# EAGLE library part SM07B-SRSS-TB (library HKCV4)
SM07B-SRSS-TB 1.0 mm pitch/Disconnectable Crimp style connectors
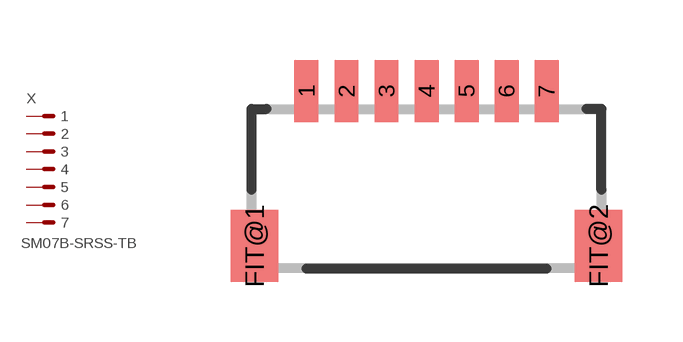
[diagram p4: symbol with the pads of SM07B-SRSS-TB; footprint SM07B-SRSS-TB]

Designator prefix X

## SM07B-SRSS-TB (VALUE: SM07B-SRSS-TB)  [SM07B-SRSS-TB]
1  1  pas
2  2  pas
3  3  pas
4  4  pas
5  5  pas
6  6  pas
7  7  pas

## Footprint SM07B-SRSS-TB (pad centres in mm)
Shrouded Header, side entry type
smd 0.6 x 1.55: 1 -3,2.975; 2 -2,2.975; 3 -1,2.975; 4 0,2.975; 5 1,2.975; 6 2,2.975; 7 3,2.975
smd 1.2 x 1.8: FIT@1 -4.3,-0.9; FIT@2 4.3,-0.9